# Altium schematic symbol library Schlib_MolexConnectors.SchLib: 1 symbol
Pins are listed as number, name and electrical type; pins without a type are passive.

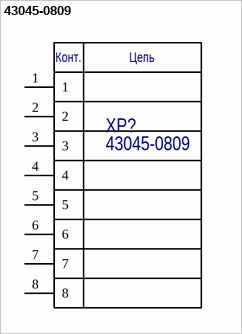
[diagram p0: symbol 43045-0809]

## 43045-0809
designator XP?
Manufacturer: Molex Connectors; Part Number: 43045-0809
pins: 1 (power), 2 (power), 3 (power), 4 (power), 5 (power), 6 (power), 7 (power), 8 (power)
text: Конт.; Цепь